# EAGLE library part 2.4"_TFT_DISPLAY (library BuyDisplay)
2.4" TFT Display 240x320 BuyDisplay.com <http://www.buydisplay.com/default/color-2-4-inch-tft-lcd-module-display-touch-panel-240x320-dot-serial-spi>
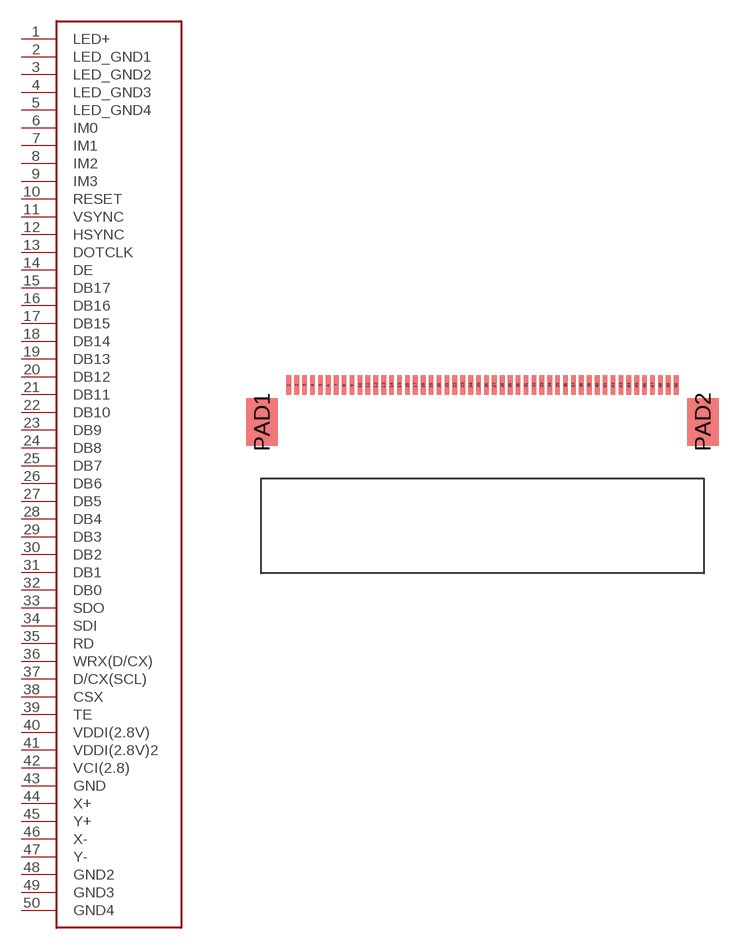
[diagram p0: symbol with the pads of 50PIN_LCD_ZIF; footprint 50PIN_LCD_ZIF]

Designator prefix -

## 2.4"_TFT_DISPLAY_ZIF  [50PIN_LCD_ZIF]
1  LED+
2  LED_GND1
3  LED_GND2
4  LED_GND3
5  LED_GND4
6  IM0
7  IM1
8  IM2
9  IM3
10  RESET
11  VSYNC
12  HSYNC
13  DOTCLK
14  DE
15  DB17
16  DB16
17  DB15
18  DB14
19  DB13
20  DB12
21  DB11
22  DB10
23  DB9
24  DB8
25  DB7
26  DB6
27  DB5
28  DB4
29  DB3
30  DB2
31  DB1
32  DB0
33  SDO
34  SDI
35  RD
36  WRX(D/CX)
37  D/CX(SCL)
38  CSX
39  TE
40  VDDI(2.8V)
41  VDDI(2.8V)2
42  VCI(2.8)
43  GND
44  X+
45  Y+
46  X-
47  Y-
48  GND2
49  GND3
50  GND4

## Footprint 50PIN_LCD_ZIF (pad centres in mm)
smd 0.3 x 1.25: 1 -12.25,-5.97; 2 -11.75,-5.97; 3 -11.25,-5.97; 4 -10.75,-5.97; 5 -10.25,-5.97; 6 -9.75,-5.97; 7 -9.25,-5.97; 8 -8.75,-5.97; 9 -8.25,-5.97; 10 -7.75,-5.97; 11 -7.25,-5.97; 12 -6.75,-5.97; 13 -6.25,-5.97; 14 -5.75,-5.97; 15 -5.25,-5.97; 16 -4.75,-5.97; 17 -4.25,-5.97; 18 -3.75,-5.97; 19 -3.25,-5.97; 20 -2.75,-5.97; 21 -2.25,-5.97; 22 -1.75,-5.97; 23 -1.25,-5.97; 24 -0.75,-5.97; 25 -0.25,-5.97; 26 0.25,-5.97; 27 0.75,-5.97; 28 1.25,-5.97; 29 1.75,-5.97; 30 2.25,-5.97; 31 2.75,-5.97; 32 3.25,-5.97; 33 3.75,-5.97; 34 4.25,-5.97; 35 4.75,-5.97; 36 5.25,-5.97; 37 5.75,-5.97; 38 6.25,-5.97; 39 6.75,-5.97; 40 7.25,-5.97; 41 7.75,-5.97; 42 8.25,-5.97; 43 8.75,-5.97; 44 9.25,-5.97; 45 9.75,-5.97; 46 10.25,-5.97; 47 10.75,-5.97; 48 11.25,-5.97; 49 11.75,-5.97; 50 12.25,-5.97
smd 2 x 3: PAD1 -13.94,-8.295; PAD2 13.94,-8.295